# EAGLE library part 52610-2271 (library molex)
SOCKET FFC/FPC
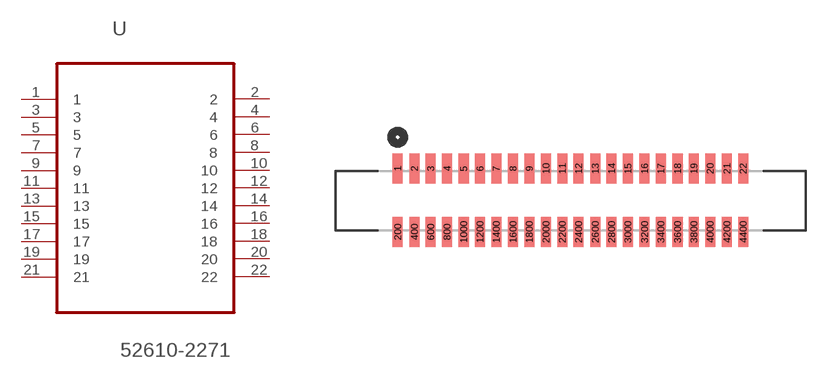
[diagram p21: symbol with the pads of MOLEX_52610-2271; footprint MOLEX_52610-2271]

Designator prefix U

## 52610-2271 (MPN: 52610-2271; OC_FARNELL: 1079963; OC_NEWARK: 58J9784; PACKAGE: SOCKET FFC/FPC, ZIF, 1MM, 22WAY; SUPPLIER: Molex)  [MOLEX_52610-2271]
1  1  pas
2  2  pas
3  3  pas
4  4  pas
5  5  pas
6  6  pas
7  7  pas
8  8  pas
9  9  pas
10  10  pas
11  11  pas
12  12  pas
13  13  pas
14  14  pas
15  15  pas
16  16  pas
17  17  pas
18  18  pas
19  19  pas
20  20  pas
21  21  pas
22  22  pas

## Footprint MOLEX_52610-2271 (pad centres in mm)
smd 0.61 x 1.803: 1 -21.006,3.861; 2 -19.99,3.861; 3 -18.999,3.861; 4 -18.009,3.861; 5 -16.993,3.861; 6 -16.002,3.861; 7 -15.011,3.861; 8 -13.995,3.861; 9 -13.005,3.861; 10 -11.989,3.861; 11 -10.998,3.861; 12 -10.008,3.861; 13 -8.992,3.861; 14 -8.001,3.861; 15 -7.01,3.861; 16 -5.994,3.861; 17 -5.004,3.861; 18 -3.988,3.861; 19 -2.997,3.861; 20 -2.007,3.861; 21 -0.991,3.861; 22 0,3.861; 200 -21.006,0; 400 -19.99,0; 600 -18.999,0; 800 -18.009,0; 1000 -16.993,0; 1200 -16.002,0; 1400 -15.011,0; 1600 -13.995,0; 1800 -13.005,0; 2000 -11.989,0; 2200 -10.998,0; 2400 -10.008,0; 2600 -8.992,0; 2800 -8.001,0; 3000 -7.01,0; 3200 -5.994,0; 3400 -5.004,0; 3600 -3.988,0; 3800 -2.997,0; 4000 -2.007,0; 4200 -0.991,0; 4400 0,0